# EAGLE library part TI_ISO1211 (library m_ic-comm)
ISO1211 Isolated 24-V to 60-V Digital Input Receiver for Digital Input Modules Features: Compliant to IEC 61131-2; Type 1, 2, 3 characteristics for 24-V isolated digital inputs Supports 9-V to 300-V DC and AC digital input designs using external resistors Accurate Current Limit for Low-Power Dissipation: 2.2mA to 2.47mA for Type3 Adjustable up to 6.5 mA Eliminates the need for field-side power supply High input-voltage range with reverse polarity protection: ±60 V Wire-break detection (refer to TIDA-01509) Configurable as sourcing or sinking input High data rates: up to 4 Mbps Enable pin to multiplex output signals High transient immunity: ±70-kV/μs CMTI Wide supply range (VCC1): 2.25 V to 5.5 V Ambient temperature range: –40°C to +125°C Compact package options: Single-channel ISO1211, SOIC-8 Dual-channel ISO1212, SSOP-16 Safety-Related Certifications: Basic insulation per DIN VDE V 0884-11 UL 1577 recognition, 2500-VRMS insulation IEC 60950-1, IEC 62368-1, IEC 61010-1 and GB 4943.1-2011 certifications Octopart search <https://octopart.com/search?q=ISO1211D*> Added 2025-01-05
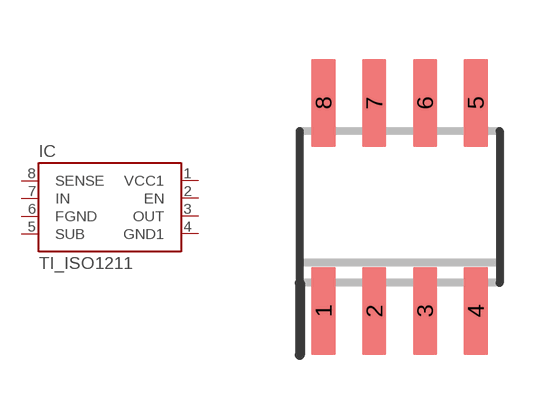
[diagram p10: symbol with the pads of SO08; footprint SO08]

Designator prefix IC

## TI_ISO1211 (MANUF: TI; PARTNUM: ISO1211D*; VALUE: ISO1211)  [SO08]
1  VCC1  pas
2  EN  pas
3  OUT  pas
4  GND1  pas
5  SUB  pas
6  FGND  pas
7  IN  pas
8  SENSE  pas

## Footprint SO08 (pad centres in mm)
SMALL OUTLINE INTEGRATED CIRCUIT body 3.9 mm/JEDEC MS-012AA Created from modified EAGLE smd-ipc.lbr on 2020-05-05
smd 0.6 x 2.2: 1 -1.905,-2.6; 2 -0.635,-2.6; 3 0.635,-2.6; 4 1.905,-2.6; 5 1.905,2.6; 6 0.635,2.6; 7 -0.635,2.6; 8 -1.905,2.6